# Altium footprint library C1808(4520)x2.PcbLib: 1 footprints
Each footprint in its own frame and in the unit in brackets; x right, y up, seen from the top. Pads: shape width x height; smd on the part's side, far side on the other; paste and mask are expansions set on the pad; w line width, h text height; cw(c..) or ccw(c..) is an arc to the next point about the centre after c.
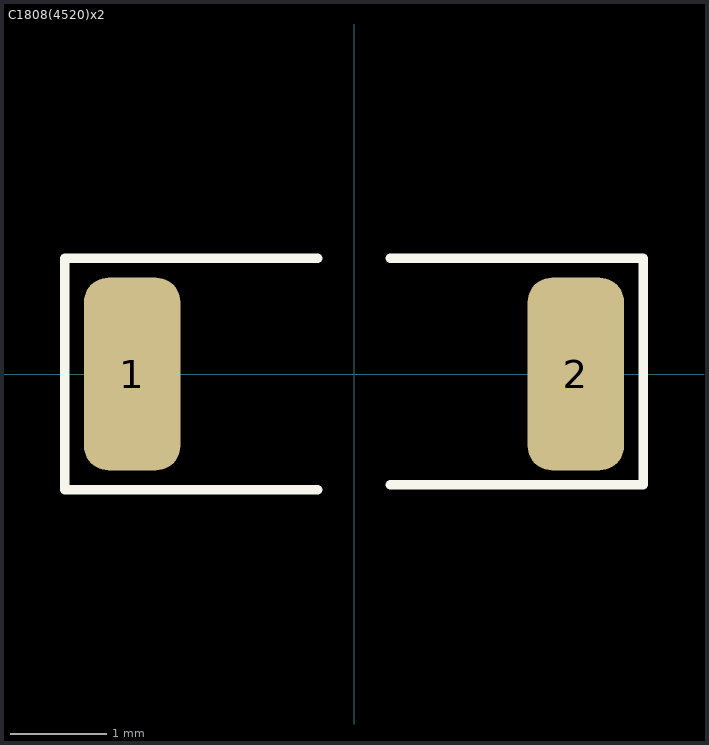
[diagram p0: the footprint, top view; thin cyan lines are the x and y axes]

## C1808(4520)x2 [mm]
height 2
pads (2):
  rrect50% 1x2 smd: 1(-2.3,0) 2(2.3,0)
Top Overlay:
  lines w0.1: -0.375,-1.2 -3,-1.2 -3,1.2 -0.375,1.2 ; 0.375,-1.15 3,-1.15 3,1.2 0.375,1.2
3D body "Cap 1808(4520)x200N.STEP": height 2.01, standoff 0, extent -2.35,-1 2.35,1